# Altium footprint library YBS3010.PcbLib: 1 footprints
Each footprint in its own frame and in the unit in brackets; x right, y up, seen from the top. Pads: shape width x height; smd on the part's side, far side on the other; paste and mask are expansions set on the pad; w line width, h text height; cw(c..) or ccw(c..) is an arc to the next point about the centre after c.
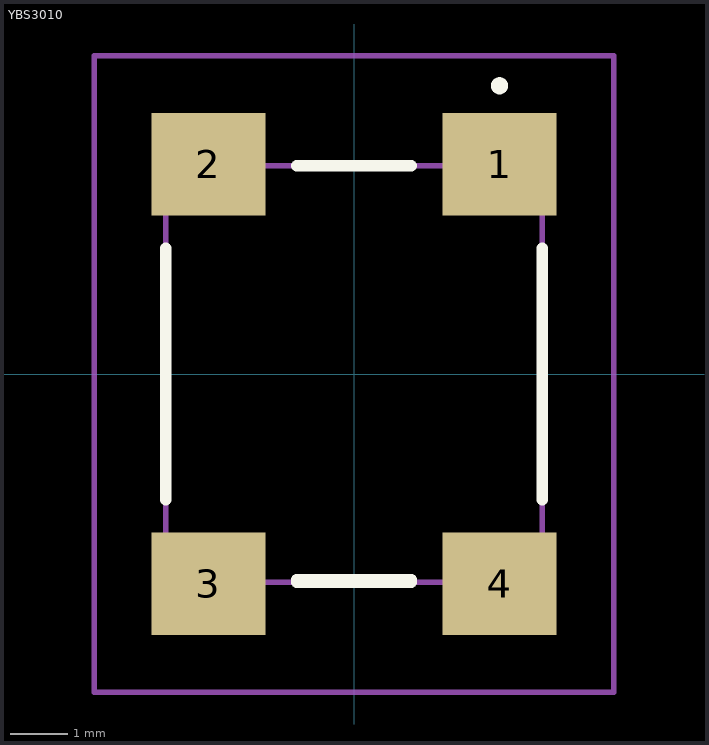
[diagram p0: the footprint, top view; thin cyan lines are the x and y axes]

## YBS3010 [mm]
pads (4):
  rect 2x1.8 smd: 1(2.55,3.675) 2(-2.55,3.675) 3(-2.55,-3.675) 4(2.55,-3.675)
Top Overlay:
  lines w0.2: -3.3,-2.2 -3.3,-2.2 ; -3.3,-2.2 -3.3,2.2 ; -3.3,-2.2 -3.3,2.2 ; -3.3,2.2 -3.3,2.2 ; -1,3.65 1,3.65 ; -1,3.65 1,3.65 ; -1,3.65 -1,3.65 ; 1,3.65 1,3.65 ; 2.55,5 2.55,5 ; 2.55,5 ccw(c2.55,5.05) 2.55,5.1 ; 2.55,5 cw(c2.55,5.05) 2.55,5.1 ; 2.55,5 2.55,5 ; 2.55,5 ccw(c2.55,5.05) 2.55,5.1 ; 2.55,5.1 2.55,5.1 ; 3.3,-2.2 3.3,2.2 ; 3.3,-2.2 3.3,-2.2 ; 3.3,-2.2 3.3,2.2 ; 3.3,2.2 3.3,2.2 ; -1,-3.65 1,-3.65 1,-3.6 -1,-3.6 -1,-3.65
Mechanical 15:
  lines w0.1: -3.3,-3.65 3.3,-3.65 3.3,3.65 -3.3,3.65 -3.3,-3.65
Mechanical 20:
  lines w0.1: -4.55,-5.575 4.55,-5.575 4.55,5.575 -4.55,5.575 -4.55,-5.575